# Altium footprint library CAP_CAN_TH_7p5mmLS16mmD.PcbLib: 1 footprints
Each footprint in its own frame and in the unit in brackets; x right, y up, seen from the top. Pads: shape width x height; smd on the part's side, far side on the other; paste and mask are expansions set on the pad; w line width, h text height; cw(c..) or ccw(c..) is an arc to the next point about the centre after c.
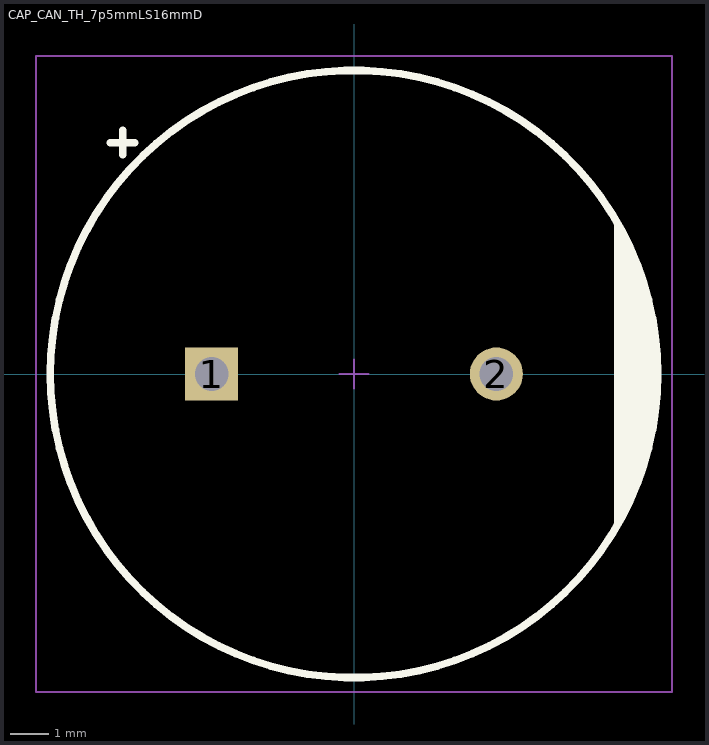
[diagram p0: the footprint, top view; thin cyan lines are the x and y axes]

## CAP_CAN_TH_7p5mmLS16mmD [mil]
pads (2):
  rect 55x55 hole 35: 1(-147.64,0)
  round 55 hole 35: 2(147.64,0)
Top Overlay:
  circle w7.87: c0,0 r314.96
  region: 270,160 270,-160 300,-95 310,-55 314.96,-15 314.96,25 310,50 300,100
  lines w7.87: -252.5,240 -227.5,240 ; -240,227.5 -240,252.5
Mechanical 15:
  lines w1.97: -15,0 15,0 ; 0,-15 0,15 ; -330,-330 -330,330 330,330 330,-330 -330,-330